# EAGLE library part MIC24085 (library CougsInSpace)
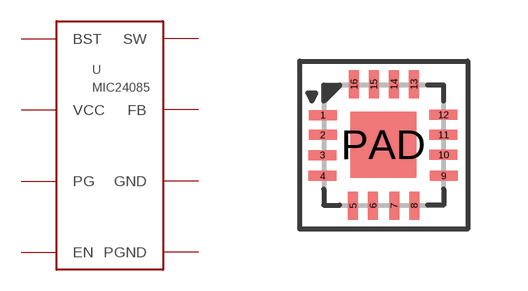
[diagram p1: symbol with the pads of QFN16-3X3; footprint QFN16-3X3]

Designator prefix -

## MIC24085  [QFN16-3X3]
1  SW
2  VCC  pwr
3  VCC  pwr
4  GND  pwr
5  FB
8  PG
9  EN
10  BST
11  VCC  pwr
12  SW
13  SW
14  PGND  pwr
15  PGND  pwr
16  SW
PAD  PGND  pwr

## Footprint QFN16-3X3 (pad centres in mm)
smd 0.7 x 0.25: 1 -1.524,0.75; 2 -1.524,0.253; 3 -1.529,-0.25; 4 -1.527,-0.774; 9 1.503,-0.77; 10 1.498,-0.245; 11 1.498,0.255; 12 1.495,0.755
smd 0.25 x 0.7: 5 -0.765,-1.513; 6 -0.265,-1.513; 7 0.263,-1.513; 8 0.763,-1.513; 13 0.758,1.518; 14 0.258,1.518; 15 -0.247,1.518; 16 -0.742,1.518
smd 1.65 x 1.65: PAD -0.009,0.008